# Altium schematic symbol library SiliconLabs.SchLib: 1 symbol
Pins are listed as number, name and electrical type; pins without a type are passive.

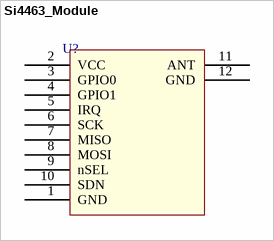
[diagram p0: symbol Si4463_Module]

## Si4463_Module
designator U?, comment Si4463  (value not drawn)
E10-433MS
footprint E10-433MS (Si4463)
pins: 1 GND, 2 VCC, 3 GPIO0, 4 GPIO1, 5 IRQ, 6 SCK, 7 MISO, 8 MOSI, 9 nSEL, 10 SDN, 11 ANT, 12 GND